# Altium schematic symbol library BAT54S-SOT-23.SchLib: 1 symbol
Pins are listed as number, name and electrical type; pins without a type are passive.

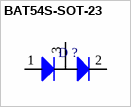
[diagram p0: symbol BAT54S-SOT-23]

## BAT54S-SOT-23
designator D ?  (value not drawn)
pins: 1, 2, 3